# Altium integrated library WE-LLCR_rev15a.intlib: 9 symbols
Pins are listed as number, name and electrical type; pins without a type are passive.

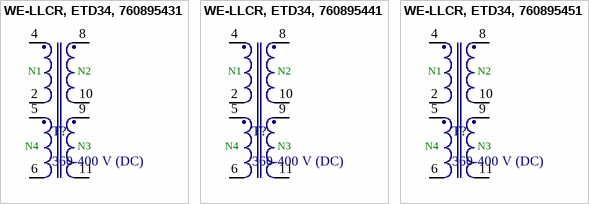
[diagram p0: symbols WE-LLCR, ETD34, 760895431 to WE-LLCR, ETD34, 760895451]

## WE-LLCR, ETD34, 760895431
designator T?, comment 360-400 V (DC)
Resonant Converter WE-LLCR, Ui=360-400 V (DC); PartNo: 760895431; Manufacturer: Würth Elektronik eiSos GmbH; OutPut Voltage: 12 V; Output Current: 12.5A; (Input Voltage) Ui: 360-400 V (DC); ComponentLink1Description: Manufacturer; ComponentLink1URL: http://www.we-online.de; Created by: Otto Christin; Created Date: NOV 2013; ComponentLink2Description: Datasheet; ComponentLink2URL: http://katalog.we-online.de/pbs/datasheet/760895431.pdf
footprint ETD34 (THT Transformer, 12-Leads, Body 36 x36 mm)
pins: 2, 4, 5, 6, 8, 9, 10, 11
text: N1; N2; N4; N3

## WE-LLCR, ETD34, 760895441
designator T?, comment 360-400 V (DC)
Resonant Converter WE-LLCR, Ui=360-400 V (DC); PartNo: 760895441; Manufacturer: Würth Elektronik eiSos GmbH; OutPut Voltage: 24 V; Output Current: 6.2A; (Input Voltage) Ui: 360-400 V (DC); ComponentLink1Description: Manufacturer; ComponentLink1URL: http://www.we-online.de; Created by: Otto Christin; Created Date: NOV 2013; ComponentLink2Description: Datasheet; ComponentLink2URL: http://katalog.we-online.de/pbs/datasheet/760895441.pdf
footprint ETD34 (THT Transformer, 12-Leads, Body 36 x36 mm)
pins: 2, 4, 5, 6, 8, 9, 10, 11
text: N1; N2; N4; N3

## WE-LLCR, ETD34, 760895451
designator T?, comment 360-400 V (DC)
Resonant Converter WE-LLCR, Ui=360-400 V (DC); PartNo: 760895451; Manufacturer: Würth Elektronik eiSos GmbH; OutPut Voltage: 48 V; Output Current: 3.1A; (Input Voltage) Ui: 360-400 V (DC); ComponentLink1Description: Manufacturer; ComponentLink1URL: http://www.we-online.de; Created by: Otto Christin; Created Date: NOV 2013; ComponentLink2Description: Datasheet; ComponentLink2URL: http://katalog.we-online.de/pbs/datasheet/760895451.pdf
footprint ETD34 (THT Transformer, 12-Leads, Body 36 x36 mm)
pins: 2, 4, 5, 6, 8, 9, 10, 11
text: N1; N2; N4; N3


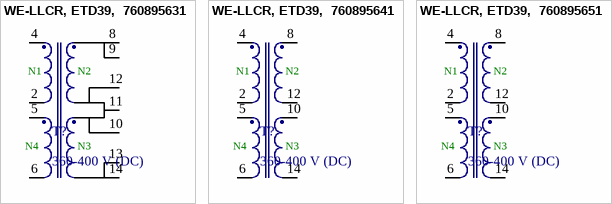
[diagram p1: symbols WE-LLCR, ETD39,  760895631 to WE-LLCR, ETD39,  760895651]

## WE-LLCR, ETD39,  760895631
designator T?, comment 360-400 V (DC)
Resonant Converter WE-LLCR, Ui=360-400 V (DC); PartNo: 760895631; Manufacturer: Würth Elektronik eiSos GmbH; OutPut Voltage: 12 V; Output Current: 16.7A; (Input Voltage) Ui: 360-400 V (DC); ComponentLink1Description: Manufacturer; ComponentLink1URL: http://www.we-online.de; Created by: Otto Christin; Created Date: NOV 2013; ComponentLink2Description: Datasheet; ComponentLink2URL: http://katalog.we-online.de/pbs/datasheet/760895631.pdf
footprint ETD39 (THT Transformer, 14-Leads, Body 44 x43 mm)
pins: 2, 4, 5, 6, 8, 9, 10, 11, 12, 13, 14
text: N1; N2; N4; N3

## WE-LLCR, ETD39,  760895641
designator T?, comment 360-400 V (DC)
Resonant Converter WE-LLCR, Ui=360-400 V (DC); PartNo: 760895641; Manufacturer: Würth Elektronik eiSos GmbH; OutPut Voltage: 24 V; Output Current: 8.3A; (Input Voltage) Ui: 360-400 V (DC); ComponentLink1Description: Manufacturer; ComponentLink1URL: http://www.we-online.de; Created by: Otto Christin; Created Date: NOV 2013; ComponentLink2Description: Datasheet; ComponentLink2URL: http://katalog.we-online.de/pbs/datasheet/760895641.pdf
footprint ETD39 (THT Transformer, 14-Leads, Body 44 x43 mm)
pins: 2, 4, 5, 6, 8, 10, 12, 14
text: N1; N2; N4; N3

## WE-LLCR, ETD39,  760895651
designator T?, comment 360-400 V (DC)
Resonant Converter WE-LLCR, Ui=360-400 V (DC); PartNo: 760895651; Manufacturer: Würth Elektronik eiSos GmbH; OutPut Voltage: 48 V; Output Current: 4.2A; (Input Voltage) Ui: 360-400 V (DC); ComponentLink1Description: Manufacturer; ComponentLink1URL: http://www.we-online.de; Created by: Otto Christin; Created Date: NOV 2013; ComponentLink2Description: Datasheet; ComponentLink2URL: http://katalog.we-online.de/pbs/datasheet/760895651.pdf
footprint ETD39 (THT Transformer, 14-Leads, Body 44 x43 mm)
pins: 2, 4, 5, 6, 8, 10, 12, 14
text: N1; N2; N4; N3


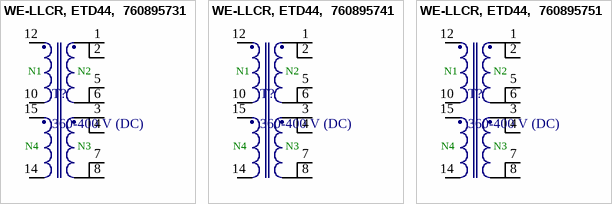
[diagram p2: symbols WE-LLCR, ETD44,  760895731 to WE-LLCR, ETD44,  760895751]

## WE-LLCR, ETD44,  760895731
designator T?, comment 360-400 V (DC)
Resonant Converter WE-LLCR, Ui=360-400 V (DC); PartNo: 760895731; Manufacturer: Würth Elektronik eiSos GmbH; OutPut Voltage: 12 V; Output Current: 20.8A; (Input Voltage) Ui: 360-400 V (DC); ComponentLink1Description: Manufacturer; ComponentLink1URL: http://www.we-online.de; Created by: Otto Christin; Created Date: NOV 2013; ComponentLink2Description: Datasheet; ComponentLink2URL: http://www.we-online.de/katalog/media/pdf/760895731.pdf
footprint ETD44 (THT Transformer, 12-Leads, Body 48 x 46 mm)
pins: 1, 2, 3, 4, 5, 6, 7, 8, 10, 12, 14, 15
text: N1; N2; N4; N3

## WE-LLCR, ETD44,  760895741
designator T?, comment 360-400 V (DC)
Resonant Converter WE-LLCR, Ui=360-400 V (DC); PartNo: 760895741; Manufacturer: Würth Elektronik eiSos GmbH; OutPut Voltage: 24 V; Output Current: 10.4A; (Input Voltage) Ui: 360-400 V (DC); ComponentLink1Description: Manufacturer; ComponentLink1URL: http://www.we-online.de; Created by: Otto Christin; Created Date: NOV 2013; ComponentLink2Description: Datasheet; ComponentLink2URL: http://www.we-online.de/katalog/media/pdf/760895741.pdf
footprint ETD44 (THT Transformer, 12-Leads, Body 48 x 46 mm)
pins: 1, 2, 3, 4, 5, 6, 7, 8, 10, 12, 14, 15
text: N1; N2; N4; N3

## WE-LLCR, ETD44,  760895751
designator T?, comment 360-400 V (DC)
Resonant Converter WE-LLCR, Ui=360-400 V (DC); PartNo: 760895751; Manufacturer: Würth Elektronik eiSos GmbH; OutPut Voltage: 48 V; Output Current: 5.2A; (Input Voltage) Ui: 360-400 V (DC); ComponentLink1Description: Manufacturer; ComponentLink1URL: http://www.we-online.de; Created by: Otto Christin; Created Date: NOV 2013; ComponentLink2Description: Datasheet; ComponentLink2URL: http://www.we-online.de/katalog/media/pdf/760895751.pdf
footprint ETD44 (THT Transformer, 12-Leads, Body 48 x 46 mm)
pins: 1, 2, 3, 4, 5, 6, 7, 8, 10, 12, 14, 15
text: N1; N2; N4; N3